# EAGLE library part ADM3101EACPZ-REEL (library ADM3101EACPZ-REEL)
RS-232 Interface IC 3.3V 1 Driver 1 Reciever Tranciever 15kV Source: Datasheet <https://www.mouser.in/datasheet/2/609/ADM3101E-1503349.pdf>
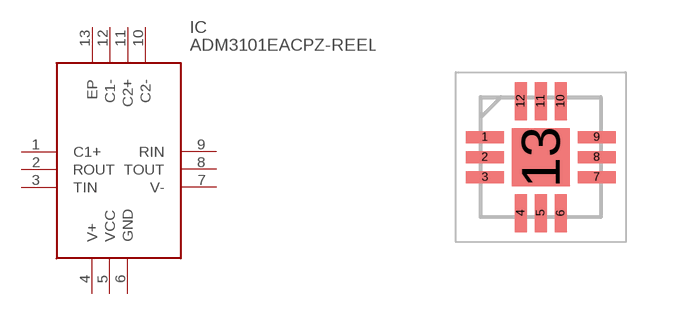
[diagram p0: symbol with the pads of QFN50P300X300X80-13N; footprint QFN50P300X300X80-13N]

Designator prefix IC

## ADM3101EACPZ-REEL (Description: RS-232 Interface IC 3.3V 1 Driver 1 Reciever Tranciever 15kV; Height: 0.8mm; Manufacturer_Name: Analog Devices; Manufacturer_Part_Number: ADM3101EACPZ-REEL; Mouser_Part_Number: 584-ADM3101EACPZ-R; Mouser_Price-Stock: https://www.mouser.co.uk/ProductDetail/Analog-Devices/ADM3101EACPZ-REEL?qs=BpaRKvA4VqEzL%2FUEa%252BmMLg%3D%3D)  [QFN50P300X300X80-13N]
1  C1+
2  ROUT
3  TIN
4  V+
5  VCC
6  GND
7  V-
8  TOUT
9  RIN
10  C2-
11  C2+
12  C1-
13  EP

## Footprint QFN50P300X300X80-13N (pad centres in mm)
12-Lead Lead Frame Chip Scale Package [LFCSP] 3 mm × 3 mm Body and 0.75 mm Package Height (CP-12-4)
smd 0.95 x 0.3: 1 -1.4,0.5; 2 -1.4,0; 3 -1.4,-0.5; 7 1.4,-0.5; 8 1.4,0; 9 1.4,0.5
smd 0.3 x 0.95: 4 -0.5,-1.4; 5 0,-1.4; 6 0.5,-1.4; 10 0.5,1.4; 11 0,1.4; 12 -0.5,1.4
smd 1.45 x 1.45: 13 0,0